# EAGLE library part XILINXJTAG (library CONNECTORs)
14 Pin header for the Xilinx JTAG programmer.
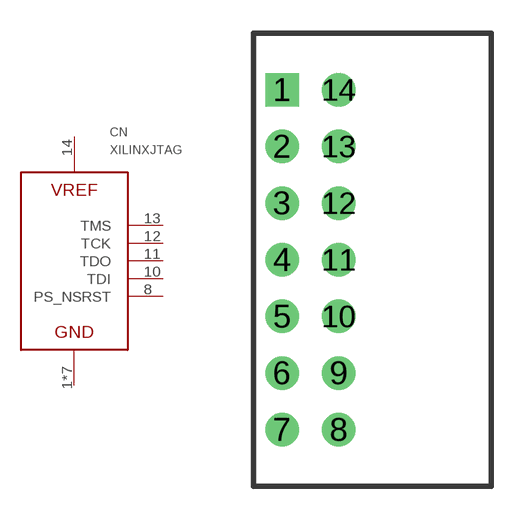
[diagram p22: symbol with the pads of 2X7HEADER; footprint 2X7HEADER]

Designator prefix CN

## XILINXJTAG (DIGIKEY: S9028-ND; HEIGHT: 5.4; PRICE_PER: 1.01; VALUE: JTAG PROG)  [2X7HEADER]
1  GND
2  GND
3  GND
4  GND
5  GND
6  GND
7  GND
8  PS_NSRST
10  TDI
11  TDO
12  TCK
13  TMS
14  VREF

## Footprint 2X7HEADER (pad centres in mm)
drill 0.8 pad 1.5 square: 1 -1.27,7.62
drill 0.8 pad 1.5: 2 -1.27,5.08; 3 -1.27,2.54; 4 -1.27,0; 5 -1.27,-2.54; 6 -1.27,-5.08; 7 -1.27,-7.62; 8 1.27,-7.62; 9 1.27,-5.08; 10 1.27,-2.54; 11 1.27,0; 12 1.27,2.54; 13 1.27,5.08; 14 1.27,7.62